# EAGLE library part M06_SMD_STRAIGHT (library myownthings)
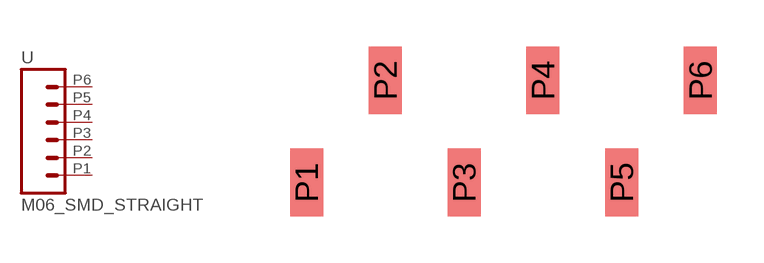
[diagram p4: symbol with the pads of M06_SMD_STRAIGHT; footprint M06_SMD_STRAIGHT]

Designator prefix -

## M06_SMD_STRAIGHT  [M06_SMD_STRAIGHT]
P1  1  pas
P2  2  pas
P3  3  pas
P4  4  pas
P5  5  pas
P6  6  pas

## Footprint M06_SMD_STRAIGHT (pad centres in mm)
smd 1.067 x 2.184: P1 0,0; P2 2.54,3.302; P3 5.08,0; P4 7.62,3.302; P5 10.16,0; P6 12.7,3.302